# Altium footprint library D2010.PcbLib: 1 footprints
Each footprint in its own frame and in the unit in brackets; x right, y up, seen from the top. Pads: shape width x height; smd on the part's side, far side on the other; paste and mask are expansions set on the pad; w line width, h text height; cw(c..) or ccw(c..) is an arc to the next point about the centre after c.
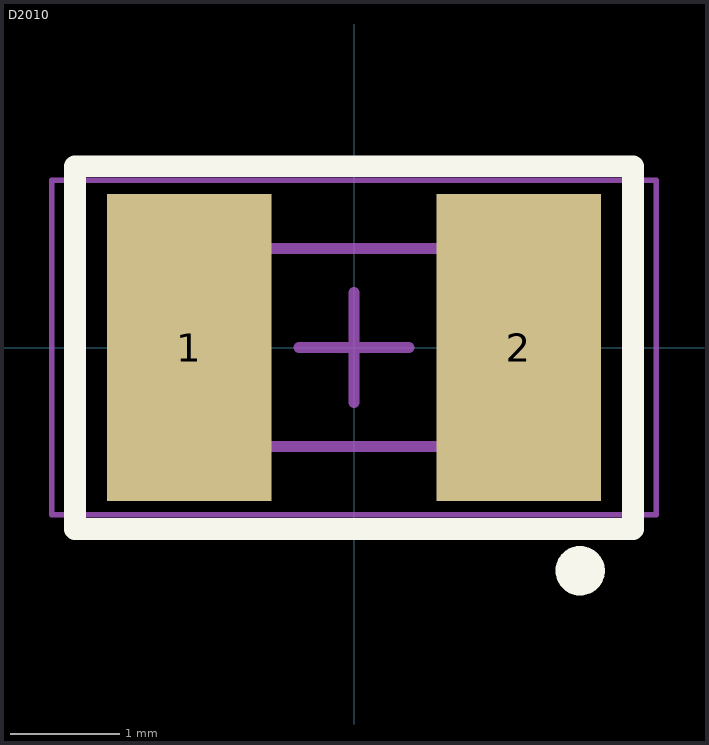
[diagram p0: the footprint, top view; thin cyan lines are the x and y axes]

## D2010 [mm]
pads (2):
  rect 1.5x2.794 smd: 1(-1.5,0) 2(1.5,0)
Top Overlay:
  lines w0.2: -2.54,-1.651 -2.54,1.651 2.54,1.651 2.54,-1.651 -2.54,-1.651
  lines w0.25: 2.154,-2 ccw(c2.059,-2.032) 2.159,-2.032
Mechanical 1:
  lines w0.1: 1.397,-0.889 1.397,0.889 ; -1.7,-0.9 -1.7,0.9 1.7,0.9 1.7,-0.9 -1.7,-0.9
  text ".Designator" at 0,-0.014 h0.6
  text "K" at 1.27,-1.524 h0.6
Mechanical 13:
  lines w0.1: -1.7,-0.9 1.7,-0.9 1.7,0.9 -1.7,0.9 -1.7,-0.9
Mechanical 15:
  lines w0.05: -2.75,-1.524 2.75,-1.524 2.75,1.524 -2.75,1.524 -2.75,-1.524
  lines w0.1: -0.5,0 0.5,0 ; 0,-0.5 0,0.5
3D body: height 0.94, standoff 0, extent 1.2,-0.9 1.7,0.9
3D body: height 0.94, standoff 0, extent -1.7,-0.9 -1.2,0.9
3D body: height 0.94, standoff 0, extent -1.2,-0.9 1.2,0.9